# Altium schematic symbol library Schlib1.SchLib: 2 symbols
Pins are listed as number, name and electrical type; pins without a type are passive.

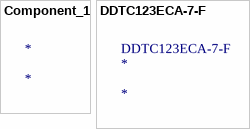
[diagram p0: symbols Component_1 to DDTC123ECA-7-F]

## Component_1
designator *

## DDTC123ECA-7-F
designator *  Supplier Part Number 1: DDTC123ECA-7-F
DDTC Series 50 V 100 mA NPN Pre-Biased Small Signal SMT Transistor -SOT-23; Manufacturer: Diodes; Collector Emitter Voltage (VCEO): 300mV; hFE Min: 20; Max Collector Current: 100mA; Transition Frequency: 250MHz; Max Power Dissipation: 200mW; Collector Emitter Breakdown Voltage: 50V; Emitter Base Voltage (VEBO): 12V; Element Configuration: Single; Supplier 1: Arrow Electronics; Manufacturer Part Number: DDTC123ECA-7-F; RoHS: Yes; Category: BJTs; Stock 1: 27; Pricing 1: 1=0,14530, 10=0,12290, 25=0,11240 (USD); Mount: Surface Mount; Case/Package: SOT-23-3; Number of Pins: 3; Weight: 0.000282oz; Min Operating Temperature: -55°C; Max Operating Temperature: 150°C; Package Quantity: 3000; Packaging: Tape and Reel; Max Breakdown Voltage: 50V; Polarity: NPN; Continuous Collector Current: 100mA; Current Rating: 100mA; Voltage Rating (DC): 50V; Series: -; Collector-emitter Voltage-Max: 300mV; Length: 3.05mm; Width: 1.4mm; Height: 1mm; Radiation Hardening: No; Lead Free: Lead Free; RoHS Compliant: Yes; ComponentLink1URL: http://www.alliedelec.com/m/d/0a7df5d872e8f7b31f1e087e083fd959.pdf?src-supplier=Allied+Electronics; ComponentLink1Description: http://www.alliedelec.com/m/d/0a7df5d872e8f7b31f1e087e083fd959.pdf?src-supplier=Allied+Electronics; ComponentLink2URL: http://uk.rs-online.com/webdocs/1321/0900766b81321d3b.pdf?src-supplier=RSComponents; ComponentLink2Description: http://uk.rs-online.com/webdocs/1321/0900766b81321d3b.pdf?src-supplier=RSComponents; ComponentLink3URL: http://www.mouser.com/ds/2/115/ds30329-87454.pdf?src-supplier=Mouser; ComponentLink3Description: http://www.mouser.com/ds/2/115/ds30329-87454.pdf?src-supplier=Mouser; ComponentLink4URL: http://components.arrow.com/part/dataview/41508482S8989305N2867?src-supplier=Arrow+Electronics; ComponentLink4Description: http://components.arrow.com/part/dataview/41508482S8989305N2867?src-supplier=Arrow+Electronics; ComponentLink5URL: https://www.diodes.com/assets/Datasheets/ds30329.pdf?src-supplier=Digi-Key; ComponentLink5Description: https://www.diodes.com/assets/Datasheets/ds30329.pdf?src-supplier=Digi-Key; ComponentLink6URL: http://www.diodes.com/datasheets/ds30329.pdf?src-supplier=Avnet; ComponentLink6Description: http://www.diodes.com/datasheets/ds30329.pdf?src-supplier=Avnet; ComponentLink7URL: http://www.diodes.com/_files/datasheets/ds30329.pdf?src-supplier=Future+Electronics; ComponentLink7Description: http://www.diodes.com/_files/datasheets/ds30329.pdf?src-supplier=Future+Electronics